# Altium footprint library NCV5661MN33T2G.PcbLib: 2 footprints
Each footprint in its own frame and in the unit in brackets; x right, y up, seen from the top. Pads: shape width x height; smd on the part's side, far side on the other; paste and mask are expansions set on the pad; w line width, h text height; cw(c..) or ccw(c..) is an arc to the next point about the centre after c.
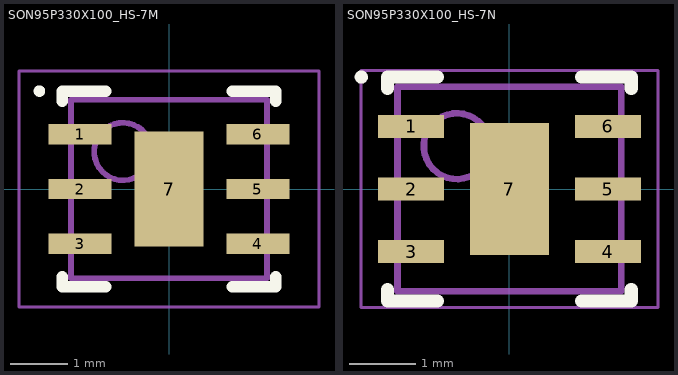
[diagram p0: the footprints below, top view; thin cyan lines are the x and y axes]

## SON95P330X100_HS-7M [mm] "SON, 6-Leads, Body 3.00x3.30mm, Pitch 0.95mm, Thermal Pad 2.00x1.20mm, IPC Low Density"
height 1
pads (7):
  rect 1.1x0.35 smd: 1(-1.545,0.95) 2(-1.545,0) 3(-1.545,-0.95) 4(1.545,-0.95) 5(1.545,0) 6(1.545,0.95)
  rect 1.2x2 smd: 7(0,0)
Top Overlay:
  circle w0.1: c-2.25,1.7 r0.05
  lines w0.2: -1.85,-1.525 -1.85,-1.7 -1.095,-1.7 ; -1.85,1.525 -1.85,1.7 -1.095,1.7 ; 1.095,-1.7 1.85,-1.7 1.85,-1.525 ; 1.095,1.7 1.85,1.7 1.85,1.525
Mechanical 13:
  circle w0.1: c-0.8,0.65 r0.5
  lines w0.1: -1.7,-1.55 -1.7,1.55 1.7,1.55 1.7,-1.55 -1.7,-1.55
Mechanical 15:
  lines w0.05: -2.605,-2.05 -2.605,2.05 2.605,2.05 2.605,-2.05 -2.605,-2.05
  lines w0.1: -0.5,0 0.5,0 ; 0,-0.5 0,0.5
3D body "SON95P330X100_HS-7M.step": height 1, standoff 0, extent -1.75,-1.55 1.75,1.55

## SON95P330X100_HS-7N [mm] "SON, 6-Leads, Body 3.00x3.30mm, Pitch 0.95mm, Thermal Pad 2.00x1.20mm, IPC Medium Density"
height 1
pads (7):
  rect 1x0.35 smd: 1(-1.495,0.95) 2(-1.495,0) 3(-1.495,-0.95) 4(1.495,-0.95) 5(1.495,0) 6(1.495,0.95)
  rect 1.2x2 smd: 7(0,0)
Top Overlay:
  circle w0.1: c-2.25,1.7 r0.05
  lines w0.2: -1.85,-1.525 -1.85,-1.7 -1.095,-1.7 ; -1.85,1.525 -1.85,1.7 -1.095,1.7 ; 1.095,-1.7 1.85,-1.7 1.85,-1.525 ; 1.095,1.7 1.85,1.7 1.85,1.525
Mechanical 13:
  circle w0.1: c-0.8,0.65 r0.5
  lines w0.1: -1.7,-1.55 1.7,-1.55 1.7,1.55 -1.7,1.55 -1.7,-1.55
Mechanical 15:
  lines w0.05: -2.255,-1.8 2.255,-1.8 2.255,1.8 -2.255,1.8 -2.255,-1.8
  lines w0.1: -0.5,0 0.5,0 ; 0,-0.5 0,0.5
3D body "SON95P330X100_HS-7N.step": height 1, standoff 0, extent -1.75,-1.55 1.75,1.55